# EAGLE library part MC14490P (library workoutAid)
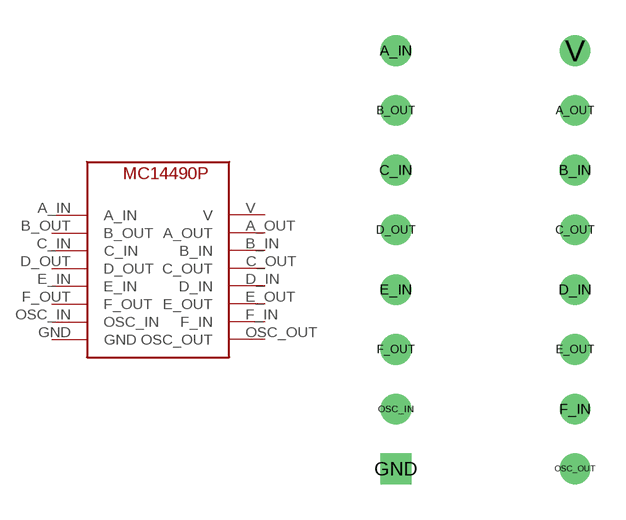
[diagram p3: symbol with the pads of MC14490P; footprint MC14490P]

Designator prefix -

## MC14490P  [MC14490P]
A_IN  A_IN
A_OUT  A_OUT
B_IN  B_IN
B_OUT  B_OUT
C_IN  C_IN
C_OUT  C_OUT
D_IN  D_IN
D_OUT  D_OUT
E_IN  E_IN
E_OUT  E_OUT
F_IN  F_IN
F_OUT  F_OUT
GND  GND
OSC_IN  OSC_IN
OSC_OUT  OSC_OUT
V  V

## Footprint MC14490P (pad centres in mm)
drill 0.8: A_IN -3.81,12.7; A_OUT 3.81,10.16; B_IN 3.81,7.62; B_OUT -3.81,10.16; C_IN -3.81,7.62; C_OUT 3.81,5.08; D_IN 3.81,2.54; D_OUT -3.81,5.08; E_IN -3.81,2.54; E_OUT 3.81,0; F_IN 3.81,-2.54; F_OUT -3.81,0; OSC_IN -3.81,-2.54; OSC_OUT 3.81,-5.08; V 3.81,12.7
drill 0.8 square: GND -3.81,-5.08